# EAGLE library part MM74HC393MTC (library Fairchild_By_element14_Batch_1)
Dual 4-Bit Binary Counter
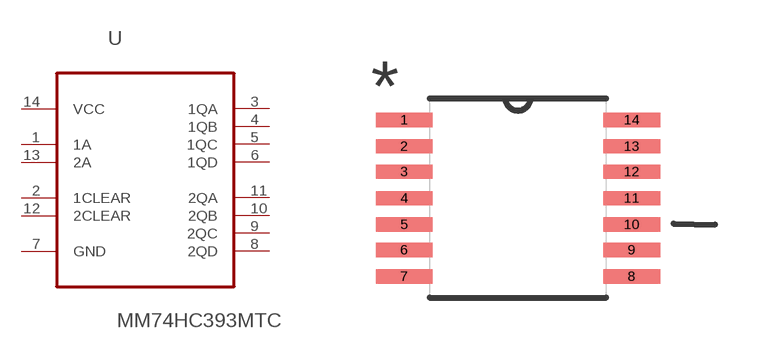
[diagram p279: symbol with the pads of SOP65P640X120-14N; footprint SOP65P640X120-14N]

Designator prefix U

## MM74HC393MTC (MPN: MM74HC393MTC; OC_FARNELL: 1607668; OC_NEWARK: 58K9452; PACKAGE: TSSOP-14; SUPPLIER: FAIRCHILD)  [SOP65P640X120-14N]
1  1A  in
2  1CLEAR  in
3  1QA  out
4  1QB  out
5  1QC  out
6  1QD  out
7  GND  pas
8  2QD  out
9  2QC  out
10  2QB  out
11  2QA  out
12  2CLEAR  in
13  2A  in
14  VCC  pwr

## Footprint SOP65P640X120-14N (pad centres in mm)
smd 1.422 x 0.356: 1 -2.845,1.956; 2 -2.845,1.295; 3 -2.845,0.66; 4 -2.845,0; 5 -2.845,-0.66; 6 -2.845,-1.295; 7 -2.845,-1.956; 8 2.845,-1.956; 9 2.845,-1.295; 10 2.845,-0.66; 11 2.845,0; 12 2.845,0.66; 13 2.845,1.295; 14 2.845,1.956